# Altium footprint library IMU_ld.PcbLib: 10 footprints
Each footprint in its own frame and in the unit in brackets; x right, y up, seen from the top. Pads: shape width x height; smd on the part's side, far side on the other; paste and mask are expansions set on the pad; w line width, h text height; cw(c..) or ccw(c..) is an arc to the next point about the centre after c.
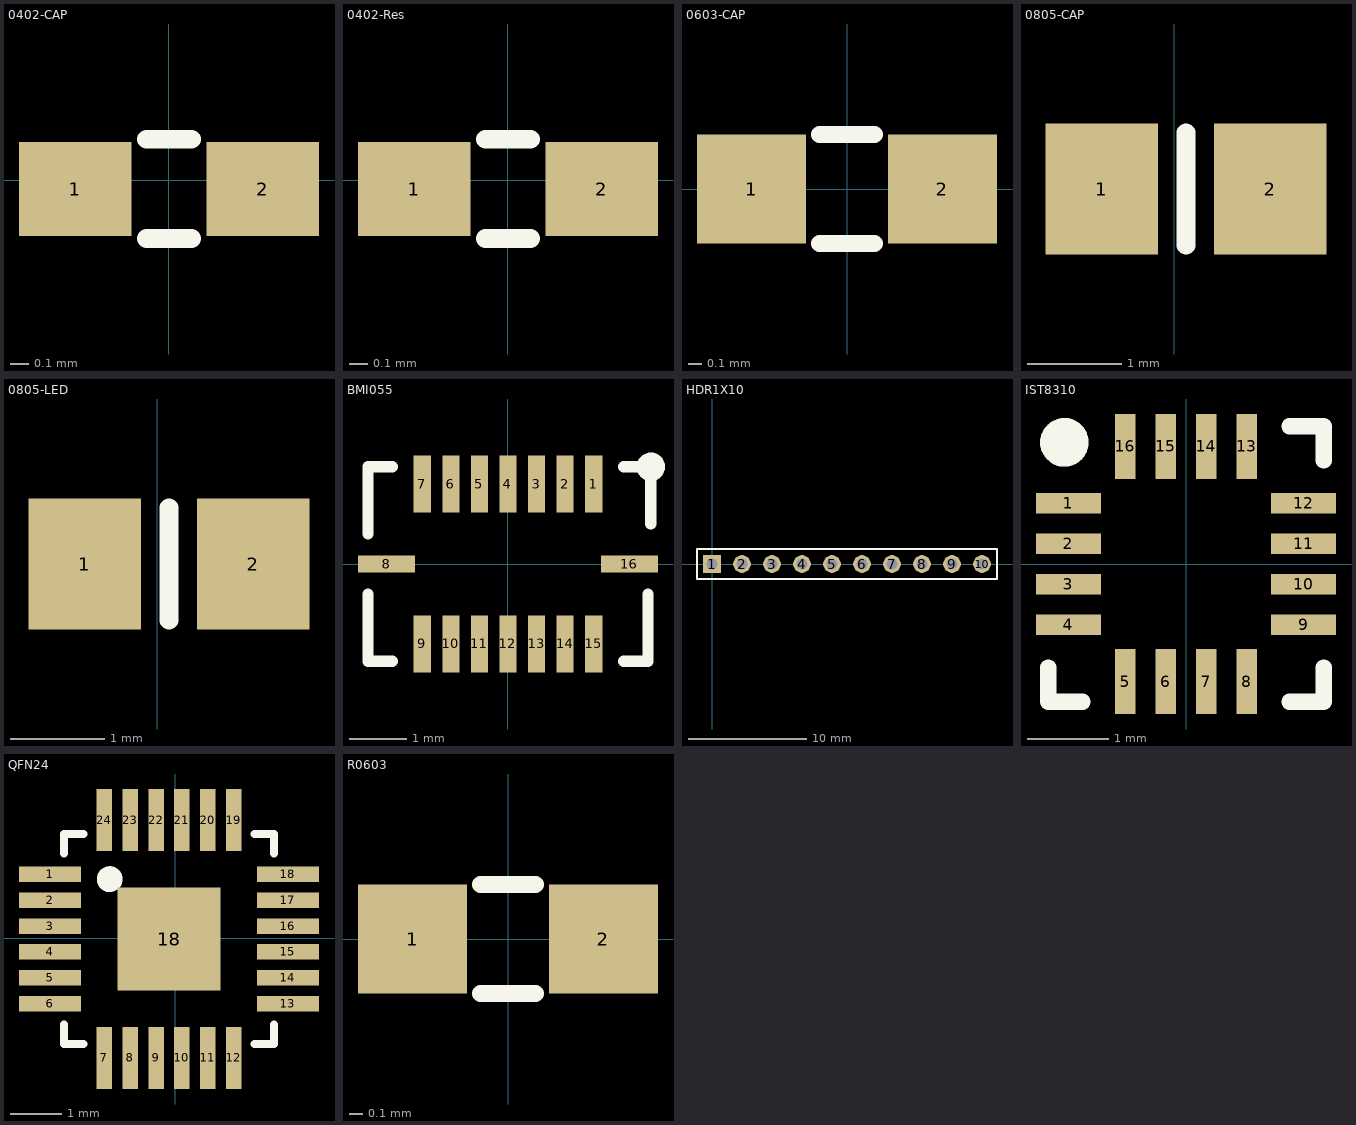
[diagram p0: the footprints below, top view; thin cyan lines are the x and y axes]

## 0402-CAP [mm]
pads (2):
  rect 0.6x0.5 smd: 1(-0.5,-0.046) 2(0.5,-0.046)
Top Overlay:
  lines w0.1: -0.12,-0.31 0.12,-0.31 ; -0.12,0.22 0.12,0.22
3D body: height 0.55, standoff 0, extent -0.55,-0.3 0.55,0.3

## 0402-Res [mm]
pads (2):
  rect 0.6x0.5 smd: 1(-0.5,-0.046) 2(0.5,-0.046)
Top Overlay:
  lines w0.1: -0.12,-0.31 0.12,-0.31 ; -0.12,0.22 0.12,0.22
3D body: height 0.55, standoff 0, extent -0.55,-0.3 0.55,0.3

## 0603-CAP [mm] "0603-CAP"
pads (2):
  rect 0.8x0.8 smd: 1(-0.7,0) 2(0.7,0)
Top Overlay:
  lines w0.127: -0.2,-0.4 0.2,-0.4 ; -0.2,0.4 0.2,0.4
3D body "CAPC1608(0603).STEP": height 0.6, standoff 0, extent -0.75,-0.4 0.85,0.4

## 0805-CAP [mm]
pads (2):
  rect 1.2x1.4 smd: 1(-0.773,-2.159) 2(1.027,-2.159)
Top Overlay:
  lines w0.2: 0.127,-2.759 0.127,-1.559
3D body: height 0.7, standoff 0, extent -0.948,-2.859 1.202,-1.459

## 0805-LED [mm]
pads (2):
  rect 1.2x1.4 smd: 1(-0.773,-1.905) 2(1.027,-1.905)
Top Overlay:
  lines w0.2: 0.127,-2.505 0.127,-1.305
3D body: height 0.7, standoff 0, extent -0.948,-2.605 1.202,-1.205

## BMI055 [mm] "QFN, 16-Leads, Body 4.50x3.00mm, Pitch 0.50mm, Thermal Pad 3.28x0.25mm, IPC Medium Density"
height 1
pads (16):
  rect 0.3x1 smd: 1(1.5,1.4) 2(1,1.4) 3(0.5,1.4) 4(0,1.4) 5(-0.5,1.4) 6(-1,1.4) 7(-1.5,1.4) 9(-1.5,-1.4) 10(-1,-1.4) 11(-0.5,-1.4) 12(0,-1.4) 13(0.5,-1.4) 14(1,-1.4) 15(1.5,-1.4)
  rect 1x0.3 smd: 8(-2.125,0) 16(2.125,0)
Top Overlay:
  circle w0.25: c2.5,1.7 r0.125
  lines w0.2: -2.45,-0.525 -2.45,-1.7 -2.025,-1.7 ; -2.45,0.525 -2.45,1.7 -2.025,1.7 ; 2.025,-1.7 2.45,-1.7 2.45,-0.525 ; 2.025,1.7 2.45,1.7 ; 2.5,0.7 2.5,1.6
3D body: height 1, standoff 0.13, extent -2.3,-1.55 2.3,1.55

## HDR1X10 [mm] "Connector; Header; 10 Position"
pads (10):
  rect 1.5x1.5 hole 0.9: 1(0,0)
  round 1.5 hole 0.9: 2(2.54,0) 3(5.08,0) 4(7.62,0) 5(10.16,0) 6(12.7,0) 7(15.24,0) 8(17.78,0) 9(20.32,0) 10(22.86,0)
Top Overlay:
  lines w0.2: -1.27,-1.27 24.13,-1.27 24.13,1.27 0.635,1.27 -1.27,1.27 -1.27,-1.27

## IST8310 [mm] "QFN, 16-Leads, Body 3.00x3.00mm, Pitch 0.50mm, Thermal Pad 1.75x1.75mm, IPC Medium Density"
height 1
pads (16):
  rect 0.8x0.25 smd: 1(-1.45,0.75) 2(-1.45,0.25) 3(-1.45,-0.25) 4(-1.45,-0.75) 9(1.45,-0.75) 10(1.45,-0.25) 11(1.45,0.25) 12(1.45,0.75)
  rect 0.25x0.8 smd: 5(-0.75,-1.45) 6(-0.25,-1.45) 7(0.25,-1.45) 8(0.75,-1.45) 13(0.75,1.45) 14(0.25,1.45) 15(-0.25,1.45) 16(-0.75,1.45)
Top Overlay:
  circle w0.4: c-1.5,1.5 r0.1
  lines w0.2: -1.7,-1.275 -1.7,-1.7 -1.275,-1.7 ; 1.275,-1.7 1.7,-1.7 1.7,-1.275 ; 1.275,1.7 1.7,1.7 1.7,1.275
3D body: height 1, standoff 0.01, extent -1.55,-1.55 1.55,1.55

## QFN24 [mm]
pads (25):
  rect 1.2x0.3 smd: 1(-2.423,1.236) 2(-2.423,0.736) 3(-2.423,0.236) 4(-2.423,-0.264) 5(-2.423,-0.764) 6(-2.423,-1.264) 13(2.177,-1.264) 14(2.177,-0.764) 15(2.177,-0.264) 16(2.177,0.236) 17(2.177,0.736) 18(2.177,1.236)
  rect 0.3x1.2 smd: 7(-1.373,-2.314) 8(-0.873,-2.314) 9(-0.373,-2.314) 10(0.127,-2.314) 11(0.627,-2.314) 12(1.127,-2.314) 19(1.127,2.286) 20(0.627,2.286) 21(0.127,2.286) 22(-0.373,2.286) 23(-0.873,2.286) 24(-1.373,2.286)
  rect 2x2 smd: 18(-0.123,-0.014)
Top Overlay:
  circle w0.25: c-1.27,1.143 r0.125
  lines w0.15: -2.155,-1.665 -2.155,-2.046 -1.774,-2.046 ; -2.155,1.637 -2.155,2.018 -1.774,2.018 ; 1.528,-2.046 1.909,-2.046 1.909,-1.665 ; 1.528,2.018 1.909,2.018 1.909,1.637

## R0603 [mm] "R0603"
pads (2):
  rect 0.8x0.8 smd: 1(-0.7,0) 2(0.7,0)
Top Overlay:
  lines w0.127: -0.2,-0.4 0.2,-0.4 ; -0.2,0.4 0.2,0.4
3D body "CAPC1608(0603).STEP": height 0.6, standoff 0, extent -0.75,-0.4 0.85,0.4